# Altium footprint library PcbLib1.PcbLib: 1 footprints
Each footprint in its own frame and in the unit in brackets; x right, y up, seen from the top. Pads: shape width x height; smd on the part's side, far side on the other; paste and mask are expansions set on the pad; w line width, h text height; cw(c..) or ccw(c..) is an arc to the next point about the centre after c.
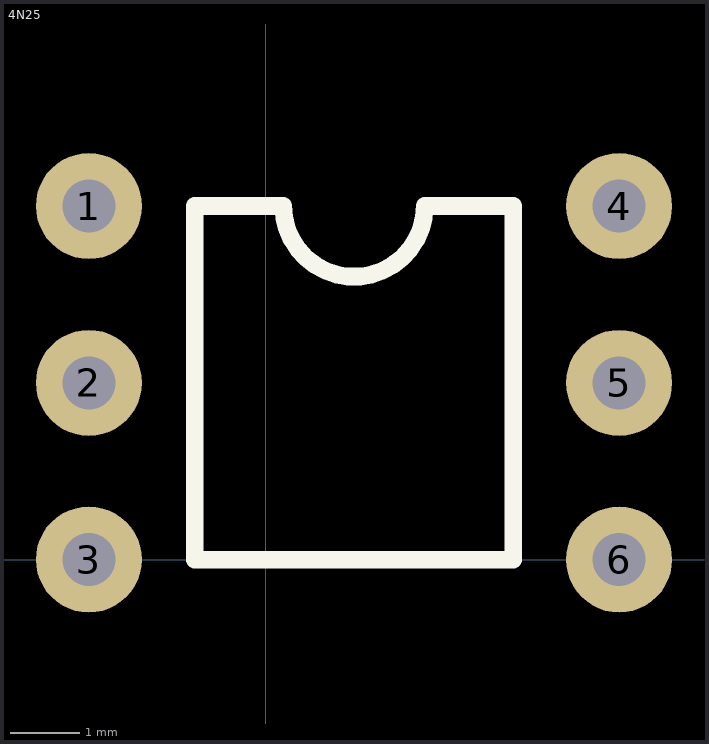
[diagram p0: the footprint, top view; thin cyan lines are the x and y axes]

## 4N25 [mil]
pads (6):
  round 60 hole 30: 1(-100,200) 2(-100,100) 3(-100,0) 4(200,200) 5(200,100) 6(200,0)
Top Overlay:
  lines w10: -40,0 140,0 140,200 90,200 cw(c50,200) 10,200 -40,200 -40,0